# Altium schematic symbol library Connector.SchLib: 46 symbols
Pins are listed as number, name and electrical type; pins without a type are passive.

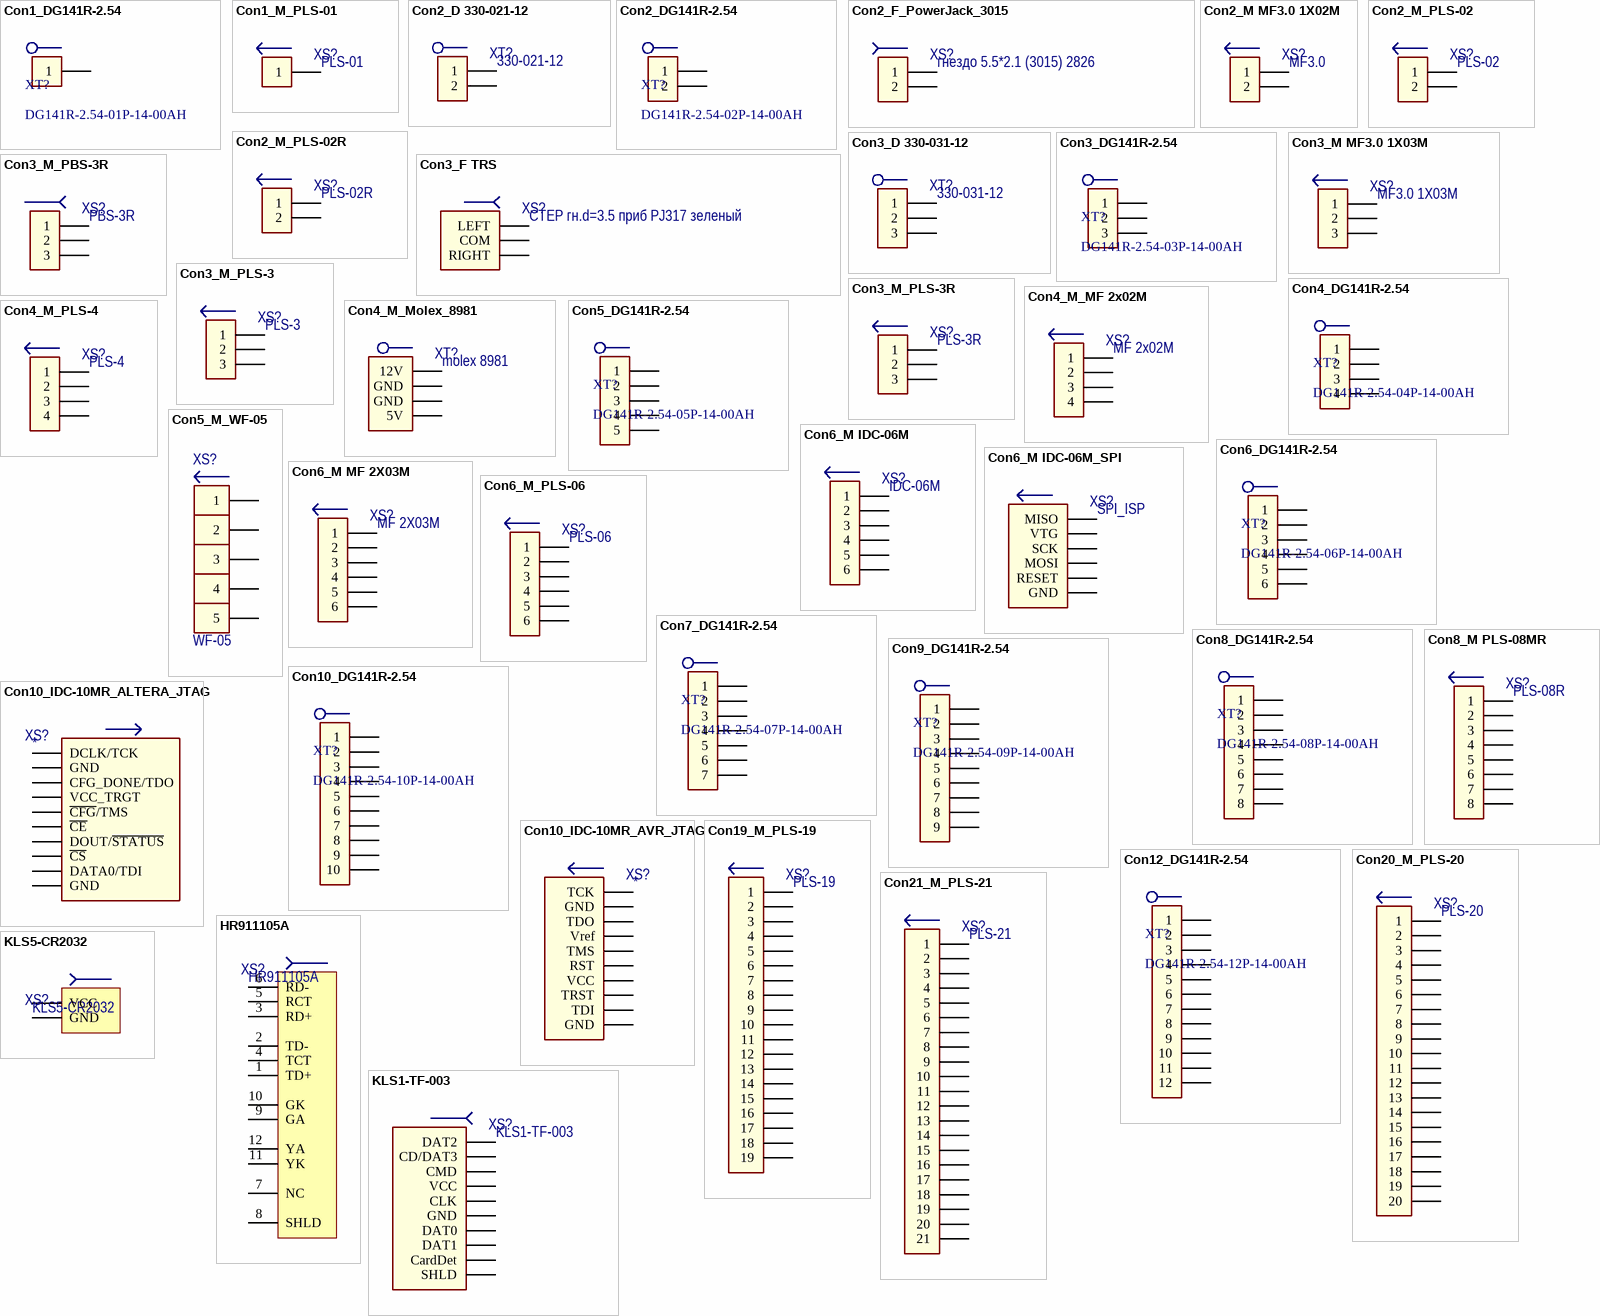
[diagram p0: symbols Con1_DG141R-2.54 to KLS5-CR2032]

## Con1_DG141R-2.54
designator XT?, comment DG141R-2.54-01P-14-00AH
ManufacturerPartNumber: DG141R-2.54-01P-14-00AH
footprint DG141R-2.54-01P-14-00AH (Conn)
pins: 1

## Con1_M_PLS-01
designator XS?, comment PLS-01
Male 1-pin connection; Manufacturer: AUK; Note: Продаётся только как PLS-40 вилка; ManufacturerPartNumber: PLS-01; ComponentLink1Description: Datasheet; ComponentLink1URL: http://www.promelec.ru/catalog/406/1218/1224/1/24233/; Supplier: Промэлектроника; Price: 1
footprint PLS-01 (вилка на плату)
pins: 1

## Con2_D 330-021-12
designator XT?, comment 330-021-12
Demountable connection  2-pin; Manufacturer: Degson Electronics Co., Ltd; ManufacturerPartNumber: 330-021-12; ComponentLink1Description: Datasheet; ComponentLink1URL: http://www.promelec.ru/pdf/320,321,330,335.pdf; Price: 7,45; Supplier: Промэлектроника; ComponentLink2Description: Datasheet-local
footprint 330-021-12
pins: 1, 2

## Con2_DG141R-2.54
designator XT?, comment DG141R-2.54-02P-14-00AH
ManufacturerPartNumber: DG141R-2.54-02P-14-00AH
footprint DG141R-2.54-02P-14-00AH
pins: 1, 2

## Con2_F_PowerJack_3015
designator XS?, comment гнездо 5.5*2.1 (3015) 2826
гнездо 5.5*2.1; Manufacturer: Unknown; ManufacturerPartNumber: гнездо 5.5*2.1 (3015) 2826; Supplier: Промэлектроника; Price: 16.77; Note: *
footprint CON2_3015_PowerJack_5.5x2.1 (Power_Con)
pins: 1, 2

## Con2_M MF3.0 1X02M
designator XS?, comment MF3.0
Male 2-pin connection; ManufacturerPartNumber: MF3.0 1X02M; Manufacturer: AUK; ComponentLink1Description: Datasheet; ComponentLink1URL: http://www.promelec.ru/catalog/406/1218/1228/0/99573/; Note: MF3.0; Supplier: Промэлектроника; ComponentLink2Description: Datasheet-local; ComponentLink2URL: *; Price: 15
footprint MF3.0 1x02M
pins: 1, 2

## Con2_M_PLS-02
designator XS?, comment PLS-02
Male 2-pin connection; Manufacturer: AUK; Note: Продаётся только как PLS-40 вилка; ManufacturerPartNumber: PLS-02; ComponentLink1Description: Datasheet; ComponentLink1URL: http://www.promelec.ru/catalog/406/1218/1224/1/24233/; Supplier: Промэлектроника; Price: 1
footprint PLS-02 (вилка на плату)
pins: 1, 2

## Con2_M_PLS-02R
designator XS?, comment PLS-02R
Male 2-pin connection; Note: Продаётся только как PLS-40R вилка; ManufacturerPartNumber: PLS-02R; ComponentLink1Description: Datasheet; ComponentLink1URL: http://www.promelec.ru/catalog/406/1218/1224/1/24233/; Price: 1
footprint PLS-02R1 (вилка на плату)
footprint PLS-02R2 (вилка на плату)
pins: 1, 2

## Con3_D 330-031-12
designator XT?, comment 330-031-12
Demountable connection 3-pin; Manufacturer: Degson Electronics Co., Ltd; ManufacturerPartNumber: partnumber; ManufacturerPartNumber: 330-031-12; Supplier: Промэлектроника; Price: 1
footprint 330-031-12
pins: 1, 2, 3

## Con3_DG141R-2.54
designator XT?, comment DG141R-2.54-03P-14-00AH
ManufacturerPartNumber: DG141R-2.54-03P-14-00AH
footprint DG141R-2.54-03P-14-00AH
pins: 1, 2, 3

## Con3_F TRS
designator XS?, comment СТЕР гн.d=3.5 приб PJ317 зеленый
Female 3-pin stereo TRS; Manufacturer: SHE; ManufacturerPartNumber: partnumber; ManufacturerPartNumber: СТЕР гн.d=3.5 приб PJ317 зеленый; ComponentLink1Description: Datasheet; ComponentLink1URL: http://www.promelec.ru/catalog/406/1218/1228/0/99573/; ComponentLink2Description: Datasheet-local; ComponentLink2URL: *; Price: 1
footprint 3.5mm Jack board
pins: 1 LEFT, 2 COM, 3 RIGHT

## Con3_M MF3.0 1X03M
designator XS?, comment MF3.0 1X03M
Male 3-pin connection; ManufacturerPartNumber: partnumber; ManufacturerPartNumber: MF3.0 1X03M; ComponentLink1Description: Datasheet; ComponentLink1URL: http://www.promelec.ru/catalog/406/1218/1228/0/99573/; ComponentLink2Description: Datasheet-local; ComponentLink2URL: *; Price: 1
footprint MF3.0 1x03M
pins: 1, 2, 3

## Con3_M_PBS-3R
designator XS?, comment PBS-3R
Male 3-pin connection; ManufacturerPartNumber: partnumber; ManufacturerPartNumber: PBS-3R; ComponentLink1Description: Datasheet; ComponentLink1URL: http://www.promelec.ru/catalog/406/1218/1224/1/24233/; ComponentLink2Description: Datasheet-local; ComponentLink2URL: *; Price: 1
footprint PBS-03R (вилка на плату)
pins: 1, 2, 3

## Con3_M_PLS-3
designator XS?, comment PLS-3
Male 3-pin connection; ManufacturerPartNumber: partnumber; ManufacturerPartNumber: PLS-3; ComponentLink1Description: Datasheet; ComponentLink1URL: http://www.promelec.ru/catalog/406/1218/1224/1/24233/; ComponentLink2Description: Datasheet-local; ComponentLink2URL: *; Price: 1
footprint PLS-03
pins: 1, 2, 3

## Con3_M_PLS-3R
designator XS?, comment PLS-3R
Male 3-pin connection; ManufacturerPartNumber: partnumber; ManufacturerPartNumber: PLS-3R; ComponentLink1Description: Datasheet; ComponentLink1URL: http://www.promelec.ru/catalog/406/1218/1224/1/24233/; ComponentLink2Description: Datasheet-local; ComponentLink2URL: *; Price: 1
footprint PLS-03R (вилка на плату)
pins: 1, 2, 3

## Con4_DG141R-2.54
designator XT?, comment DG141R-2.54-04P-14-00AH
ManufacturerPartNumber: DG141R-2.54-04P-14-00AH
footprint DG141R-2.54-04P-14-00AH
pins: 1, 2, 3, 4

## Con4_M_MF 2x02M
designator XS?, comment MF 2x02M
Male 4-pin connection; Manufacturer: AUK Connector; ManufacturerPartNumber: partnumber; ManufacturerPartNumber: MF 2x02M; ComponentLink1Description: Datasheet; ComponentLink1URL: http://www.promelec.ru/catalog/406/1218/1228/0/63868/; Supplier: Промэлектроника; ComponentLink2Description: Datasheet-local; ComponentLink2URL: *; Price: 1
footprint MF 2x02M
pins: 1, 2, 3, 4

## Con4_M_Molex_8981
designator XT?, comment molex 8981
Demountable connection  4-pin; Manufacturer: Molex Inc.; ManufacturerPartNumber: molex 8981; ComponentLink1Description: Datasheet; ComponentLink1URL: http://www.molex.com/pdm_docs/sd/015244048_sd.pdf; Supplier: Промэлектроника; ComponentLink2Description: Datasheet-local; Price: 1
footprint con4_molex_8981 (4-pin molex connection)
pins: 1 12V, 2 GND, 3 GND, 4 5V

## Con4_M_PLS-4
designator XS?, comment PLS-4
Male 4-pin connection; ManufacturerPartNumber: PLS-4; ComponentLink1Description: Datasheet; ComponentLink1URL: http://www.promelec.ru/catalog/406/1218/1224/1/24233/; ComponentLink2Description: Datasheet-local; ComponentLink2URL: *; Price: 1
footprint PLS-04 (вилка на плату)
pins: 1, 2, 3, 4

## Con5_DG141R-2.54
designator XT?, comment DG141R-2.54-05P-14-00AH
ManufacturerPartNumber: DG141R-2.54-05P-14-00AH
footprint DG141R-2.54-05P-14-00AH
pins: 1, 2, 3, 4, 5

## Con5_M_WF-05
designator XS?, comment WF-05
Male 5-pin connection; ManufacturerPartNumber: WF-05 (KLS1-2 54-05-S); Manufacturer: KLS; ComponentLink1Description: Доки; ComponentLink1URL: http://www.klsele.com/admin/product_upload/201411061522392014102716494120120502154954KLS1-2.54.pdf; Note: WF-05; Supplier: Промэлектроника; ComponentLink2Description: Datasheet-local; ComponentLink2URL: *; Price: 3
footprint WF-05 (вилка на плату)
pins: 1, 2, 3, 4, 5

## Con6_DG141R-2.54
designator XT?, comment DG141R-2.54-06P-14-00AH
ManufacturerPartNumber: DG141R-2.54-06P-14-00AH
footprint DG141R-2.54-06P-14-00AH
pins: 1, 2, 3, 4, 5, 6

## Con6_M IDC-06M
designator XS?, comment IDC-06M
Male 6-pin connection; ManufacturerPartNumber: partnumber; ManufacturerPartNumber: IDC-06M; ComponentLink1Description: Datasheet; ComponentLink1URL: http://www.promelec.ru/catalog/406/1218/1223/1/156430/; ComponentLink2Description: Datasheet-local; ComponentLink2URL: *; Price: 1
footprint IDC-06M
pins: 1, 2, 3, 4, 5, 6

## Con6_M IDC-06M_SPI
designator XS?, comment SPI_ISP
SPI connector; ManufacturerPartNumber: IDC-06M; ComponentLink1Description: Datasheet; ComponentLink1URL: http://www.promelec.ru/catalog/406/1218/1223/1/156430/; ComponentLink2Description: Datasheet-local; ComponentLink2URL: *; Price: 1
footprint IDC-06M
pins: 1 MISO, 2 VTG, 3 SCK, 4 MOSI, 5 RESET, 6 GND

## Con6_M MF 2X03M
designator XS?, comment MF 2X03M
Male 6-pin connection; ManufacturerPartNumber: partnumber; ManufacturerPartNumber: MF 2X03M; ComponentLink1Description: Datasheet; ComponentLink1URL: http://www.promelec.ru/catalog/406/1218/1228/0/63867/; ComponentLink2Description: Datasheet-local; ComponentLink2URL: *; Price: 1
footprint MF 2x03M
pins: 1, 2, 3, 4, 5, 6

## Con6_M_PLS-06
designator XS?, comment PLS-06
Male 6-pin connection; ManufacturerPartNumber: PLS-06; ComponentLink1Description: Datasheet; ComponentLink1URL: http://www.promelec.ru/catalog/406/1218/1224/1/24233/; ComponentLink2Description: Datasheet-local; ComponentLink2URL: *; Price: 1
footprint PLS-06 (вилка на плату)
pins: 1, 2, 3, 4, 5, 6

## Con7_DG141R-2.54
designator XT?, comment DG141R-2.54-07P-14-00AH
ManufacturerPartNumber: DG141R-2.54-07P-14-00AH
footprint DG141R-2.54-07P-14-00AH
pins: 1, 2, 3, 4, 5, 6, 7

## Con8_DG141R-2.54
designator XT?, comment DG141R-2.54-08P-14-00AH
ManufacturerPartNumber: DG141R-2.54-08P-14-00AH
footprint DG141R-2.54-08P-14-00AH
pins: 1, 2, 3, 4, 5, 6, 7, 8

## Con8_M PLS-08MR
designator XS?, comment PLS-08R
Male 8-pin connection; ManufacturerPartNumber: partnumber; ManufacturerPartNumber: PLS-08R; ComponentLink1Description: Datasheet; ComponentLink1URL: http://www.promelec.ru/catalog/406/1218/1223/1/99528/; ComponentLink2Description: Datasheet-local; ComponentLink2URL: *; Price: 1
footprint PLS-08R1 (угловая вилка на плату)
footprint PLS-08R2 (угловая вилка на плату)
pins: 1, 2, 3, 4, 5, 6, 7, 8

## Con9_DG141R-2.54
designator XT?, comment DG141R-2.54-09P-14-00AH
ManufacturerPartNumber: DG141R-2.54-09P-14-00AH
footprint DG141R-2.54-09P-14-00AH
pins: 1, 2, 3, 4, 5, 6, 7, 8, 9

## Con10_DG141R-2.54
designator XT?, comment DG141R-2.54-10P-14-00AH
ManufacturerPartNumber: DG141R-2.54-10P-14-00AH
footprint DG141R-2.54-10P-14-00AH
pins: 1, 2, 3, 4, 5, 6, 7, 8, 9, 10

## Con10_IDC-10MR_ALTERA_JTAG
designator XS?
ALTERA JTAG connector; ManufacturerPartNumber: partnumber; Price: 1; Manufacturer: *; Note: *; Supplier: *
footprint IDC-10MR (IDC 10 pin right connector)
pins: 1 DCLK/TCK, 2 GND, 3 CFG_DONE/TDO, 4 VCC_TRGT, 5 ~{CFG}/TMS, 6 ~{CE}, 7 DOUT/~{STATUS}, 8 ~{CS}, 9 DATA0/TDI, 10 GND

## Con10_IDC-10MR_AVR_JTAG
designator XS?
AVR JTAG connector; ManufacturerPartNumber: partnumber; Price: 1; Manufacturer: *; Note: *; Supplier: *
footprint IDC-10MR (IDC 10 pin right connector)
pins: 1 TCK, 2 GND, 3 TDO, 4 Vref, 5 TMS, 6 RST, 7 VCC, 8 TRST, 9 TDI, 10 GND

## Con12_DG141R-2.54
designator XT?, comment DG141R-2.54-12P-14-00AH
ManufacturerPartNumber: DG141R-2.54-12P-14-00AH
footprint DG141R-2.54-12P-14-00AH
pins: 1, 2, 3, 4, 5, 6, 7, 8, 9, 10, 11, 12

## Con19_M_PLS-19
designator XS?, comment PLS-19
Male 19-pin connection; ManufacturerPartNumber: PLS-19; ComponentLink1Description: Datasheet; ComponentLink1URL: http://www.promelec.ru/catalog/406/1218/1224/1/24233/; ComponentLink2Description: Datasheet-local; ComponentLink2URL: *; Price: 1
footprint PLS-19
pins: 1, 2, 3, 4, 5, 6, 7, 8, 9, 10, 11, 12, 13, 14, 15, 16, 17, 18, 19

## Con20_M_PLS-20
designator XS?, comment PLS-20
Male 20-pin connection; ManufacturerPartNumber: PLS-20; ComponentLink1Description: Datasheet; ComponentLink1URL: http://www.promelec.ru/catalog/406/1218/1224/1/24233/; ComponentLink2Description: Datasheet-local; ComponentLink2URL: *; Price: 1
footprint PLS-20 (вилка на плату)
pins: 1, 2, 3, 4, 5, 6, 7, 8, 9, 10, 11, 12, 13, 14, 15, 16, 17, 18, 19, 20

## Con21_M_PLS-21
designator XS?, comment PLS-21
Male 21-pin connection; ManufacturerPartNumber: PLS-21; ComponentLink1Description: Datasheet; ComponentLink1URL: http://www.promelec.ru/catalog/406/1218/1224/1/24233/; ComponentLink2Description: Datasheet-local; ComponentLink2URL: *; Price: 1
footprint PLS-21 (вилка на плату)
pins: 1, 2, 3, 4, 5, 6, 7, 8, 9, 10, 11, 12, 13, 14, 15, 16, 17, 18, 19, 20, 21

## HR911105A
designator XS?
Ethernet Magjack; ManufacturerPartNumber: HR911105A; Price: 1; Manufacturer: *; Note: *; Supplier: *
footprint HR911105A (Magjack)
pins: 1 TD+, 2 TD-, 3 RD+, 4 TCT, 5 RCT, 6 RD-, 7 NC, 8 SHLD, 9 GA, 10 GK, 11 YK, 12 YA

## KLS1-TF-003
designator XS?
Micro SD Card Connector; Manufacturer: KLS; ComponentURL1Description: Datasheet; ManufacturerPartNumber: KLS1-TF-003; ComponentURL1Link: http://www.klsele.com/admin/product_upload/20130626125116KLS1-TF-003.pdf; Supplier: Промэлектроника; Price: 1; Note: *
footprint KLS1-TF-003 (Micro SD Card Connector)
pins: 1 DAT2, 2 CD/DAT3, 3 CMD, 4 VCC, 5 CLK, 6 GND, 7 DAT0, 8 DAT1, Cd CardDet, G SHLD

## KLS5-CR2032
designator XS?
CR2032 battery holder; Price: 1; ManufacturerPartNumber: KLS5-CR2032; Manufacturer: *; Note: *; Supplier: *
footprint KLS5-CR2032 (CR2032 battery holder)
pins: + VCC, - GND

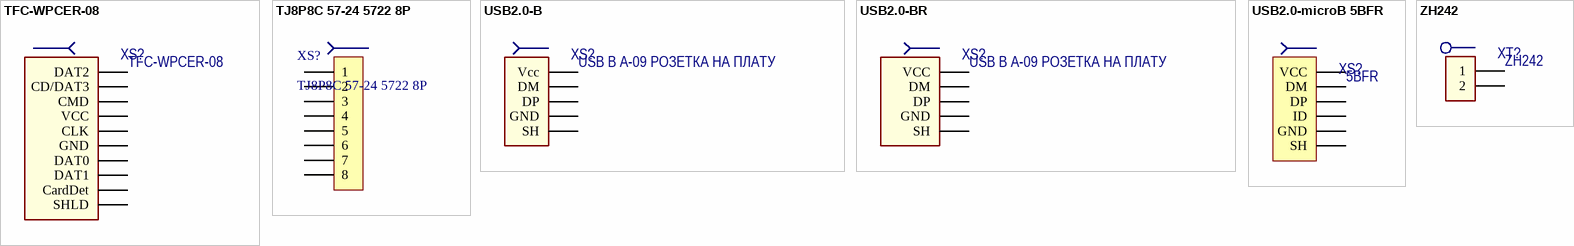
[diagram p1: symbols TFC-WPCER-08 to ZH242]

## TFC-WPCER-08
designator XS?
MicroSD surface mount socket (push-push type); Manufacturer: AUK; ManufacturerPartNumber: partnumber; ComponentURL1Description: Datasheet; ManufacturerPartNumber: TFC-WPCER-08; ComponentURL1Link: http://www.promelec.ru/pdf/TFC-WPCE08.pdf; Supplier: Промэлектроника; Price: 1; Note: *
footprint TFC-WPCER-08 (MicroSD Socket Top Mount Push-push Type)
pins: 1 DAT2, 2 CD/DAT3, 3 CMD, 4 VCC, 5 CLK, 6 GND, 7 DAT0, 8 DAT1, G SHLD, S CardDet

## TJ8P8C 57-24 5722 8P
designator XS?
Розетка на плату RJ-45; ManufacturerPartNumber: TJ8P8C 57-24 5722 8P
footprint TJ8P8C 57-24 5722 8P
pins: 1, 2, 3, 4, 5, 6, 7, 8

## USB2.0-B
designator XS?, comment USB B A-09 РОЗЕТКА НА ПЛАТУ
USB-B; ManufacturerPartNumber: partnumber; ManufacturerPartNumber: USB B A-09 РОЗЕТКА НА ПЛАТУ; ComponentLink1Description: Datasheet; ComponentLink1URL: http://www.promelec.ru/catalog/406/1229/1281/1/124861/; ComponentLink2Description: Datasheet-local; ComponentLink2URL: *; Price: 1
footprint USB2.0B_Horizontal (Connector; USB1.1, Type B, Thru-Hole; 4 Position; Right Angle)
pins: 1 Vcc, 2 DP, 3 DM, 4 GND, 5 SH

## USB2.0-BR
designator XS?, comment USB B A-09 РОЗЕТКА НА ПЛАТУ
USB-B Vertical; ManufacturerPartNumber: partnumber; ManufacturerPartNumber: USB B A-09 РОЗЕТКА НА ПЛАТУ; ComponentLink1Description: Datasheet; ComponentLink1URL: http://www.promelec.ru/catalog/406/1229/1281/1/124861/; ComponentLink2Description: Datasheet-local; ComponentLink2URL: *; Price: 1
footprint USB2.0B_Vertical (Connector; USB1.1, Type B, Thru-Hole; 4 Position; Right Angle)
pins: D+ DP, D- DM, GND, SHLD SH, VCC

## USB2.0-microB 5BFR
designator XS?, comment 5BFR
Роезтка microUSB угловая; ManufacturerPartNumber: microUSB 5BFR; Manufacturer: ?; Price: 29.91; Note: 5BFR; Supplier: *
footprint USB2.0microB
pins: D+ DP, D- DM, GND, ID, SHIELD SH, VCC

## ZH242
designator XT?
Держатель предохранителя 5*20 панель на плату; Manufacturer: Degson Electronics Co., Ltd; ManufacturerPartNumber: ZH242; ComponentLink1Description: Datasheet; ComponentLink1URL: http://www.promelec.ru/pdf/320,321,330,335.pdf; Price: 7,45; Supplier: Промэлектроника; ComponentLink2Description: Datasheet-local
footprint ZH242 (Держатель предохранителя 5*20 панель на плату)
pins: 1, 2